# Altium footprint library HARTING Footprints.PcbLib: 317 footprints (part 19 of 20)
Each footprint in its own frame and in the unit in brackets; x right, y up, seen from the top. Pads: shape width x height; smd on the part's side, far side on the other; paste and mask are expansions set on the pad; w line width, h text height; cw(c..) or ccw(c..) is an arc to the next point about the centre after c.
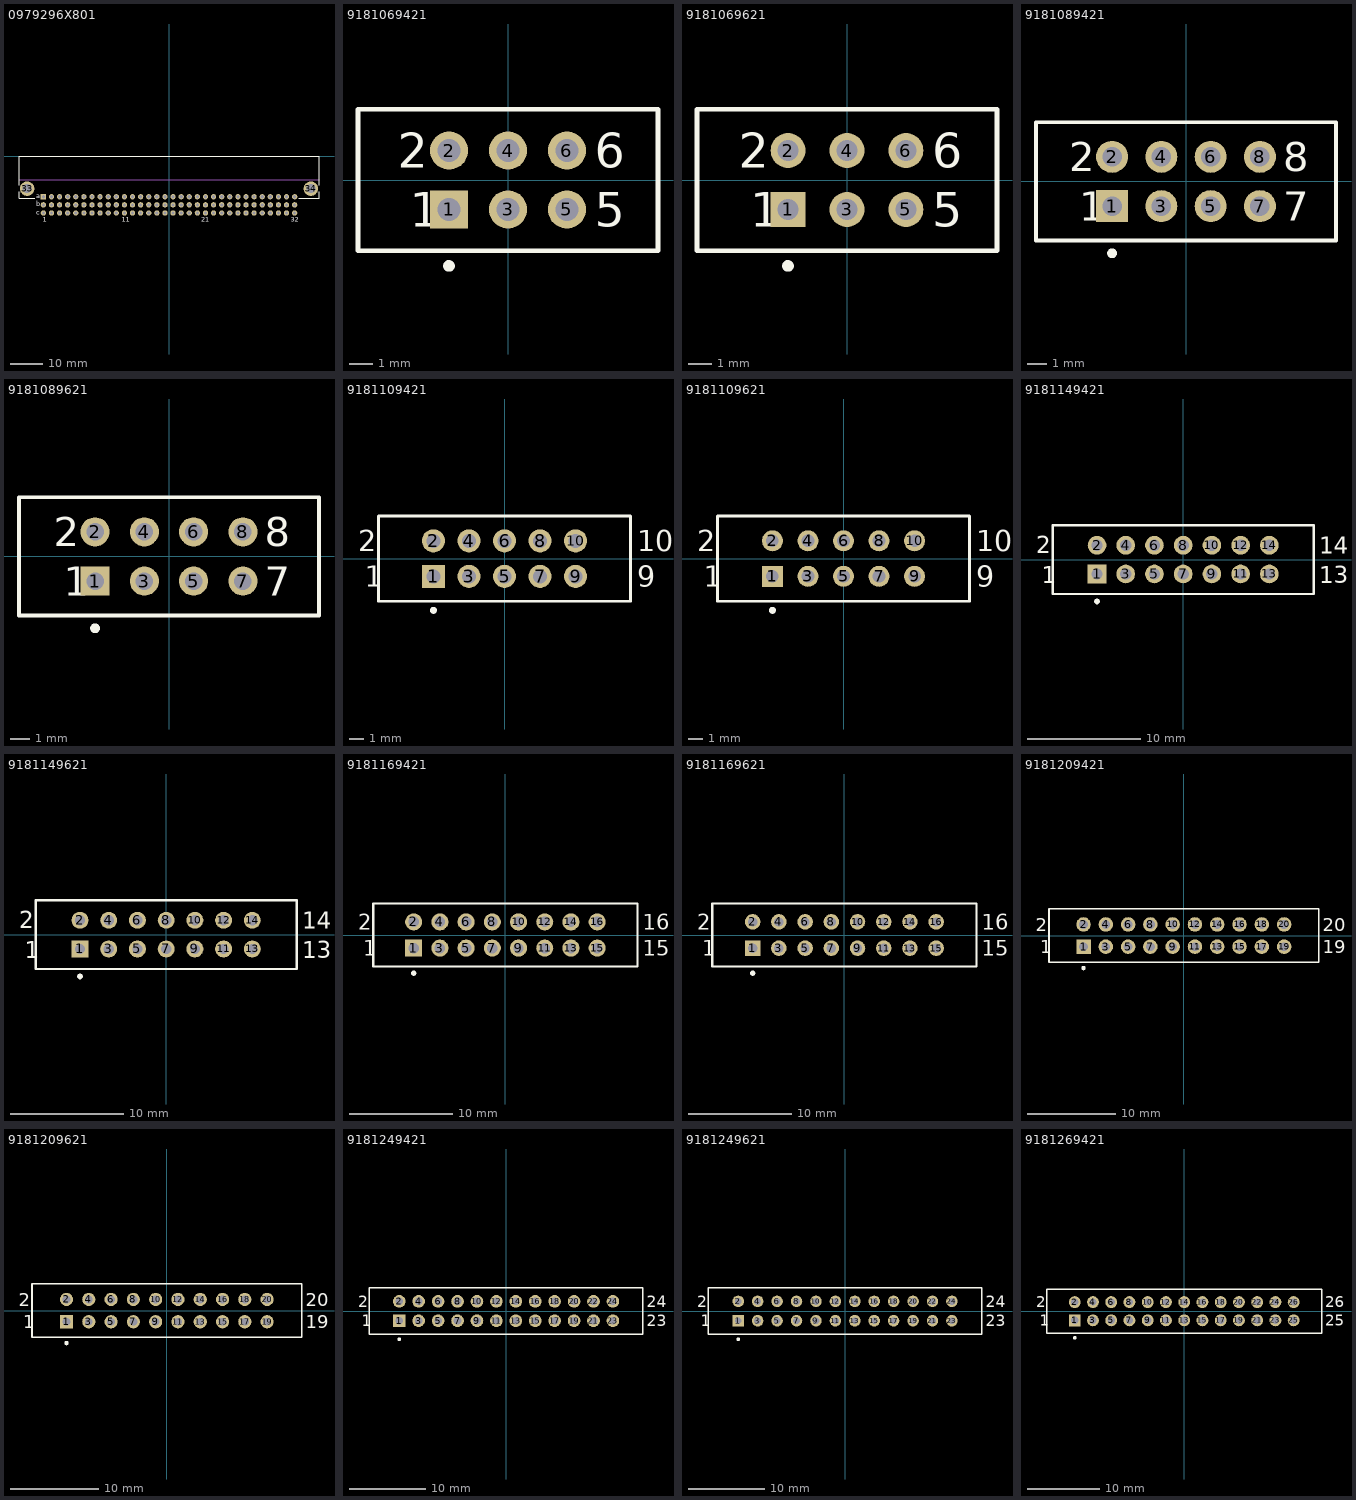
[diagram p18: the footprints below, top view; thin cyan lines are the x and y axes]

## 0979296X801 [mm] "Connector; DIN 41612, Type R, Thru-Hole; Rows a+b+c, 96 Position; Right Angle"
height 11.1
pads (98):
  round 4.6 hole 2.8: 33(-44.45,-10.1) 34(44.45,-10.1)
  rect 1.65x1.65 hole 1: A1(-39.37,-12.64)
  round 1.65 hole 1: A2(-36.83,-12.64) A3(-34.29,-12.64) A4(-31.75,-12.64) A5(-29.21,-12.64) A6(-26.67,-12.64) A7(-24.13,-12.64) A8(-21.59,-12.64) A9(-19.05,-12.64) A10(-16.51,-12.64) A11(-13.97,-12.64) A12(-11.43,-12.64) A13(-8.89,-12.64) A14(-6.35,-12.64) A15(-3.81,-12.64) A16(-1.27,-12.64) A17(1.27,-12.64) A18(3.81,-12.64) A19(6.35,-12.64) A20(8.89,-12.64) A21(11.43,-12.64) A22(13.97,-12.64) A23(16.51,-12.64) A24(19.05,-12.64) A25(21.59,-12.64) A26(24.13,-12.64) A27(26.67,-12.64) A28(29.21,-12.64) A29(31.75,-12.64) A30(34.29,-12.64) A31(36.83,-12.64) A32(39.37,-12.64) B1(-39.37,-15.18) B2(-36.83,-15.18) B3(-34.29,-15.18) B4(-31.75,-15.18) B5(-29.21,-15.18) B6(-26.67,-15.18) B7(-24.13,-15.18) B8(-21.59,-15.18) B9(-19.05,-15.18) B10(-16.51,-15.18) B11(-13.97,-15.18) B12(-11.43,-15.18) B13(-8.89,-15.18) B14(-6.35,-15.18) B15(-3.81,-15.18) B16(-1.27,-15.18) B17(1.27,-15.18) B18(3.81,-15.18) B19(6.35,-15.18) B20(8.89,-15.18) B21(11.43,-15.18) B22(13.97,-15.18) B23(16.51,-15.18) B24(19.05,-15.18) B25(21.59,-15.18) B26(24.13,-15.18) B27(26.67,-15.18) B28(29.21,-15.18) B29(31.75,-15.18) B30(34.29,-15.18) B31(36.83,-15.18) B32(39.37,-15.18) C1(-39.37,-17.72) C2(-36.83,-17.72) C3(-34.29,-17.72) C4(-31.75,-17.72) C5(-29.21,-17.72) C6(-26.67,-17.72) C7(-24.13,-17.72) C8(-21.59,-17.72) C9(-19.05,-17.72) C10(-16.51,-17.72) C11(-13.97,-17.72) C12(-11.43,-17.72) C13(-8.89,-17.72) C14(-6.35,-17.72) C15(-3.81,-17.72) C16(-1.27,-17.72) C17(1.27,-17.72) C18(3.81,-17.72) C19(6.35,-17.72) C20(8.89,-17.72) C21(11.43,-17.72) C22(13.97,-17.72) C23(16.51,-17.72) C24(19.05,-17.72) C25(21.59,-17.72) C26(24.13,-17.72) C27(26.67,-17.72) C28(29.21,-17.72) C29(31.75,-17.72) C30(34.29,-17.72) C31(36.83,-17.72) C32(39.37,-17.72)
Top Overlay:
  lines w0.2: -47,-11.1 -47,-13.14 -42.07,-13.14 ; -47,-9.1 -47,0 47,0 47,-9.1 ; 40.595,-13.14 47,-13.14 47,-11.1
  text "21" at 10.18,-20.42 h1.5
  text "11" at -14.845,-20.42 h1.5
  text "32" at 38.12,-20.42 h1.5
  text "c" at -41.58,-18.22 h1.5
  text "b" at -41.58,-15.68 h1.5
  text "a" at -41.58,-13.14 h1.5
  text "1" at -39.62,-20.42 h1.5
Mechanical 1:
  lines w0.1: -47,-7.34 47,-7.34
  text "PCB Edge" at -46.47,-6.84 h0.6

## 9181069421 [mm] "Connector; IDC, PCB Transition - 2 Rows, Thru-Hole; 6 Position; Vertical; Pitch 2.54 mm; Body 12.92 x 6.1 x 7.45 mm (LxWxH), Kinked Contacts"
height 7.45
pads (6):
  rect 1.65x1.65 hole 1: 1(-2.54,-1.27)
  round 1.65 hole 1: 2(-2.54,1.27) 3(0,-1.27) 4(0,1.27) 5(2.54,-1.27) 6(2.54,1.27)
Top Overlay:
  circle w0.25: c-2.54,-3.7 r0.125
  lines w0.2: -6.46,-3.05 -6.46,3.05 6.46,3.05 6.46,-3.05 -6.46,-3.05
  text "2" at -4.74,0.52 h1.5
  text "1" at -4.24,-2.02 h1.5
  text "6" at 3.74,0.52 h1.5
  text "5" at 3.74,-2.02 h1.5

## 9181069621 [mm] "Connector; IDC, PCB Transition - 2 Rows, Thru-Hole; 6 Position; Vertical; Pitch 2.54 mm; Body 12.92 x 6.1 x 7.45 mm (LxWxH)"
height 7.45
pads (6):
  rect 1.5x1.5 hole 0.9: 1(-2.54,-1.27)
  round 1.5 hole 0.9: 2(-2.54,1.27) 3(0,-1.27) 4(0,1.27) 5(2.54,-1.27) 6(2.54,1.27)
Top Overlay:
  circle w0.25: c-2.54,-3.7 r0.125
  lines w0.2: -6.46,-3.05 6.46,-3.05 6.46,3.05 -6.46,3.05 -6.46,-3.05
  text "5" at 3.665,-2.02 h1.5
  text "6" at 3.665,0.52 h1.5
  text "1" at -4.165,-2.02 h1.5
  text "2" at -4.665,0.52 h1.5

## 9181089421 [mm] "Connector; IDC, PCB Transition - 2 Rows, Thru-Hole; 8 Position; Vertical; Pitch 2.54 mm; Body 15.46 x 6.1 x 7.45 mm (LxWxH), Kinked Contacts"
height 7.45
pads (8):
  rect 1.65x1.65 hole 1: 1(-3.81,-1.27)
  round 1.65 hole 1: 2(-3.81,1.27) 3(-1.27,-1.27) 4(-1.27,1.27) 5(1.27,-1.27) 6(1.27,1.27) 7(3.81,-1.27) 8(3.81,1.27)
Top Overlay:
  circle w0.25: c-3.81,-3.7 r0.125
  lines w0.2: -7.73,-3.05 -7.73,3.05 7.73,3.05 7.73,-3.05 -7.73,-3.05
  text "2" at -6.01,0.52 h1.5
  text "1" at -5.51,-2.02 h1.5
  text "8" at 5.01,0.52 h1.5
  text "7" at 5.01,-2.02 h1.5

## 9181089621 [mm] "Connector; IDC, PCB Transition - 2 Rows, Thru-Hole; 8 Position; Vertical; Pitch 2.54 mm; Body 15.46 x 6.1 x 7.45 mm (LxWxH)"
height 7.45
pads (8):
  rect 1.5x1.5 hole 0.9: 1(-3.81,-1.27)
  round 1.5 hole 0.9: 2(-3.81,1.27) 3(-1.27,-1.27) 4(-1.27,1.27) 5(1.27,-1.27) 6(1.27,1.27) 7(3.81,-1.27) 8(3.81,1.27)
Top Overlay:
  circle w0.25: c-3.81,-3.7 r0.125
  lines w0.2: -7.73,-3.05 7.73,-3.05 7.73,3.05 -7.73,3.05 -7.73,-3.05
  text "7" at 4.935,-2.02 h1.5
  text "8" at 4.935,0.52 h1.5
  text "1" at -5.435,-2.02 h1.5
  text "2" at -5.935,0.52 h1.5

## 9181109421 [mm] "Connector; IDC, PCB Transition - 2 Rows, Thru-Hole; 10 Position; Vertical; Pitch 2.54 mm; Body 18.00 x 6.1 x 7.45 mm (LxWxH), Kinked Contacts"
height 7.45
pads (10):
  rect 1.65x1.65 hole 1: 1(-5.08,-1.27)
  round 1.65 hole 1: 2(-5.08,1.27) 3(-2.54,-1.27) 4(-2.54,1.27) 5(0,-1.27) 6(0,1.27) 7(2.54,-1.27) 8(2.54,1.27) 9(5.08,-1.27) 10(5.08,1.27)
Top Overlay:
  circle w0.25: c-5.08,-3.7 r0.125
  lines w0.2: -9,-3.05 9,-3.05 9,3.05 -9,3.05 -9,-3.05
  text "9" at 9.475,-2.02 h1.5
  text "10" at 9.475,0.52 h1.5
  text "1" at -9.975,-2.02 h1.5
  text "2" at -10.475,0.52 h1.5

## 9181109621 [mm] "Connector; IDC, PCB Transition - 2 Rows, Thru-Hole; 10 Position; Vertical; Pitch 2.54 mm; Body 18.00 x 6.1 x 7.45 mm (LxWxH)"
height 7.45
pads (10):
  rect 1.5x1.5 hole 0.9: 1(-5.08,-1.27)
  round 1.5 hole 0.9: 2(-5.08,1.27) 3(-2.54,-1.27) 4(-2.54,1.27) 5(0,-1.27) 6(0,1.27) 7(2.54,-1.27) 8(2.54,1.27) 9(5.08,-1.27) 10(5.08,1.27)
Top Overlay:
  circle w0.25: c-5.08,-3.7 r0.125
  lines w0.2: -9,-3.05 9,-3.05 9,3.05 -9,3.05 -9,-3.05
  text "9" at 9.475,-2.02 h1.5
  text "10" at 9.475,0.52 h1.5
  text "1" at -9.975,-2.02 h1.5
  text "2" at -10.475,0.52 h1.5

## 9181149421 [mm] "Connector; IDC, PCB Transition - 2 Rows, Thru-Hole; 14 Position; Vertical; Pitch 2.54 mm; Body 23.08 x 6.1 x 7.45 mm (LxWxH), Kinked Contacts"
height 7.45
pads (14):
  rect 1.65x1.65 hole 1: 1(-7.62,-1.27)
  round 1.65 hole 1: 2(-7.62,1.27) 3(-5.08,-1.27) 4(-5.08,1.27) 5(-2.54,-1.27) 6(-2.54,1.27) 7(0,-1.27) 8(0,1.27) 9(2.54,-1.27) 10(2.54,1.27) 11(5.08,-1.27) 12(5.08,1.27) 13(7.62,-1.27) 14(7.62,1.27)
Top Overlay:
  circle w0.25: c-7.62,-3.7 r0.125
  lines w0.2: -11.54,-3.05 -11.54,3.05 11.54,3.05 11.54,-3.05 -11.54,-3.05
  text "2" at -13.015,0.57 h1.5
  text "1" at -12.515,-2.07 h1.5
  text "14" at 12.015,0.52 h1.5
  text "13" at 12.015,-2.1 h1.5

## 9181149621 [mm] "Connector; IDC, PCB Transition - 2 Rows, Thru-Hole; 14 Position; Vertical; Pitch 2.54 mm; Body 23.08 x 6.1 x 7.45 mm (LxWxH)"
height 7.45
pads (14):
  rect 1.5x1.5 hole 0.9: 1(-7.62,-1.27)
  round 1.5 hole 0.9: 2(-7.62,1.27) 3(-5.08,-1.27) 4(-5.08,1.27) 5(-2.54,-1.27) 6(-2.54,1.27) 7(0,-1.27) 8(0,1.27) 9(2.54,-1.27) 10(2.54,1.27) 11(5.08,-1.27) 12(5.08,1.27) 13(7.62,-1.27) 14(7.62,1.27)
Top Overlay:
  circle w0.25: c-7.62,-3.7 r0.125
  lines w0.2: -11.54,-3.05 -11.54,3.05 11.54,3.05 11.54,-3.05 -11.54,-3.05
  text "2" at -13.015,0.57 h1.5
  text "1" at -12.515,-2.07 h1.5
  text "14" at 12.015,0.53 h1.5
  text "13" at 12.015,-2.1 h1.5

## 9181169421 [mm] "Connector; IDC, PCB Transition - 2 Rows, Thru-Hole; 16 Position; Vertical; Pitch 2.54 mm; Body 25.62 x 6.1 x 7.45 mm (LxWxH), Kinked Contacts"
height 7.45
pads (16):
  rect 1.65x1.65 hole 1: 1(-8.89,-1.27)
  round 1.65 hole 1: 2(-8.89,1.27) 3(-6.35,-1.27) 4(-6.35,1.27) 5(-3.81,-1.27) 6(-3.81,1.27) 7(-1.27,-1.27) 8(-1.27,1.27) 9(1.27,-1.27) 10(1.27,1.27) 11(3.81,-1.27) 12(3.81,1.27) 13(6.35,-1.27) 14(6.35,1.27) 15(8.89,-1.27) 16(8.89,1.27)
Top Overlay:
  circle w0.25: c-8.89,-3.7 r0.125
  lines w0.2: -12.81,-3.05 -12.81,3.05 12.81,3.05 12.81,-3.05 -12.81,-3.05
  text "2" at -14.285,0.52 h1.5
  text "1" at -13.785,-2.02 h1.5
  text "16" at 13.285,0.52 h1.5
  text "15" at 13.285,-2.02 h1.5

## 9181169621 [mm] "Connector; IDC, PCB Transition - 2 Rows, Thru-Hole; 16 Position; Vertical; Pitch 2.54 mm; Body 25.62 x 6.1 x 7.45 mm (LxWxH)"
height 7.45
pads (16):
  rect 1.5x1.5 hole 0.9: 1(-8.89,-1.27)
  round 1.5 hole 0.9: 2(-8.89,1.27) 3(-6.35,-1.27) 4(-6.35,1.27) 5(-3.81,-1.27) 6(-3.81,1.27) 7(-1.27,-1.27) 8(-1.27,1.27) 9(1.27,-1.27) 10(1.27,1.27) 11(3.81,-1.27) 12(3.81,1.27) 13(6.35,-1.27) 14(6.35,1.27) 15(8.89,-1.27) 16(8.89,1.27)
Top Overlay:
  circle w0.25: c-8.89,-3.7 r0.125
  lines w0.2: -12.81,-3.05 12.81,-3.05 12.81,3.05 -12.81,3.05 -12.81,-3.05
  text "15" at 13.285,-2.02 h1.5
  text "16" at 13.285,0.52 h1.5
  text "1" at -13.785,-2.011 h1.5
  text "2" at -14.285,0.52 h1.5

## 9181209421 [mm] "Connector; IDC, PCB Transition - 2 Rows, Thru-Hole; 20 Position; Vertical; Pitch 2.54 mm; Body 30.74 x 6.1 x 7.45 mm (LxWxH), Kinked Contacts"
height 7.45
pads (20):
  rect 1.65x1.65 hole 1: 1(-11.43,-1.27)
  round 1.65 hole 1: 2(-11.43,1.27) 3(-8.89,-1.27) 4(-8.89,1.27) 5(-6.35,-1.27) 6(-6.35,1.27) 7(-3.81,-1.27) 8(-3.81,1.27) 9(-1.27,-1.27) 10(-1.27,1.27) 11(1.27,-1.27) 12(1.27,1.27) 13(3.81,-1.27) 14(3.81,1.27) 15(6.35,-1.27) 16(6.35,1.27) 17(8.89,-1.27) 18(8.89,1.27) 19(11.43,-1.27) 20(11.43,1.27)
Top Overlay:
  circle w0.25: c-11.43,-3.7 r0.125
  lines w0.2: -15.37,-3.05 -15.37,3.05 15.37,3.05 15.37,-3.05 -15.37,-3.05
  text "2" at -16.845,0.52 h1.5
  text "1" at -16.345,-2.02 h1.5
  text "20" at 15.845,0.52 h1.5
  text "19" at 15.845,-2.02 h1.5

## 9181209621 [mm] "Connector; IDC, PCB Transition - 2 Rows, Thru-Hole; 20 Position; Vertical; Pitch 2.54 mm; Body 30.74 x 6.1 x 7.45 mm (LxWxH)"
height 7.45
pads (20):
  rect 1.5x1.5 hole 0.9: 1(-11.43,-1.27)
  round 1.5 hole 0.9: 2(-11.43,1.27) 3(-8.89,-1.27) 4(-8.89,1.27) 5(-6.35,-1.27) 6(-6.35,1.27) 7(-3.81,-1.27) 8(-3.81,1.27) 9(-1.27,-1.27) 10(-1.27,1.27) 11(1.27,-1.27) 12(1.27,1.27) 13(3.81,-1.27) 14(3.81,1.27) 15(6.35,-1.27) 16(6.35,1.27) 17(8.89,-1.27) 18(8.89,1.27) 19(11.43,-1.27) 20(11.43,1.27)
Top Overlay:
  circle w0.25: c-11.43,-3.7 r0.125
  lines w0.2: -15.37,-3.05 15.37,-3.05 15.37,3.05 -15.37,3.05 -15.37,-3.05
  text "19" at 15.845,-2.02 h1.5
  text "20" at 15.845,0.52 h1.5
  text "1" at -16.345,-2.02 h1.5
  text "2" at -16.845,0.52 h1.5

## 9181249421 [mm] "Connector; IDC, PCB Transition - 2 Rows, Thru-Hole; 24 Position; Vertical; Pitch 2.54 mm; Body 35.78 x 6.1 x 7.45 mm (LxWxH), Kinked Contacts"
height 7.45
pads (24):
  rect 1.65x1.65 hole 1: 1(-13.97,-1.27)
  round 1.65 hole 1: 2(-13.97,1.27) 3(-11.43,-1.27) 4(-11.43,1.27) 5(-8.89,-1.27) 6(-8.89,1.27) 7(-6.35,-1.27) 8(-6.35,1.27) 9(-3.81,-1.27) 10(-3.81,1.27) 11(-1.27,-1.27) 12(-1.27,1.27) 13(1.27,-1.27) 14(1.27,1.27) 15(3.81,-1.27) 16(3.81,1.27) 17(6.35,-1.27) 18(6.35,1.27) 19(8.89,-1.27) 20(8.89,1.27) 21(11.43,-1.27) 22(11.43,1.27) 23(13.97,-1.27) 24(13.97,1.27)
Top Overlay:
  circle w0.25: c-13.97,-3.7 r0.125
  lines w0.2: -17.89,-3.05 -17.89,3.05 17.89,3.05 17.89,-3.05 -17.89,-3.05
  text "2" at -19.365,0.52 h1.5
  text "1" at -18.865,-2.02 h1.5
  text "24" at 18.365,0.52 h1.5
  text "23" at 18.365,-2.02 h1.5

## 9181249621 [mm] "Connector; IDC, PCB Transition - 2 Rows, Thru-Hole; 24 Position; Vertical; Pitch 2.54 mm; Body 35.78 x 6.1 x 7.45 mm (LxWxH)"
height 7.45
pads (24):
  rect 1.5x1.5 hole 0.9: 1(-13.97,-1.27)
  round 1.5 hole 0.9: 2(-13.97,1.27) 3(-11.43,-1.27) 4(-11.43,1.27) 5(-8.89,-1.27) 6(-8.89,1.27) 7(-6.35,-1.27) 8(-6.35,1.27) 9(-3.81,-1.27) 10(-3.81,1.27) 11(-1.27,-1.27) 12(-1.27,1.27) 13(1.27,-1.27) 14(1.27,1.27) 15(3.81,-1.27) 16(3.81,1.27) 17(6.35,-1.27) 18(6.35,1.27) 19(8.89,-1.27) 20(8.89,1.27) 21(11.43,-1.27) 22(11.43,1.27) 23(13.97,-1.27) 24(13.97,1.27)
Top Overlay:
  circle w0.25: c-13.97,-3.7 r0.125
  lines w0.2: -17.89,-3.05 17.89,-3.05 17.89,3.05 -17.89,3.05 -17.89,-3.05
  text "23" at 18.365,-2.02 h1.5
  text "24" at 18.365,0.52 h1.5
  text "1" at -18.865,-2.02 h1.5
  text "2" at -19.365,0.52 h1.5

## 9181269421 [mm] "Connector; IDC, PCB Transition - 2 Rows, Thru-Hole; 26 Position; Vertical; Pitch 2.54 mm; Body 38.32 x 6.1 x 7.45 mm (LxWxH), Kinked Contacts"
height 7.45
pads (26):
  rect 1.65x1.65 hole 1: 1(-15.24,-1.27)
  round 1.65 hole 1: 2(-15.24,1.27) 3(-12.7,-1.27) 4(-12.7,1.27) 5(-10.16,-1.27) 6(-10.16,1.27) 7(-7.62,-1.27) 8(-7.62,1.27) 9(-5.08,-1.27) 10(-5.08,1.27) 11(-2.54,-1.27) 12(-2.54,1.27) 13(0,-1.27) 14(0,1.27) 15(2.54,-1.27) 16(2.54,1.27) 17(5.08,-1.27) 18(5.08,1.27) 19(7.62,-1.27) 20(7.62,1.27) 21(10.16,-1.27) 22(10.16,1.27) 23(12.7,-1.27) 24(12.7,1.27) 25(15.24,-1.27) 26(15.24,1.27)
Top Overlay:
  circle w0.25: c-15.24,-3.7 r0.125
  lines w0.2: -19.16,-3.05 19.16,-3.05 19.16,3.05 -19.16,3.05 -19.16,-3.05
  text "25" at 19.635,-2.02 h1.5
  text "26" at 19.635,0.52 h1.5
  text "1" at -20.135,-2.02 h1.5
  text "2" at -20.635,0.52 h1.5